# EAGLE library part FLATFLEX-60 (library SquantorConnectors)
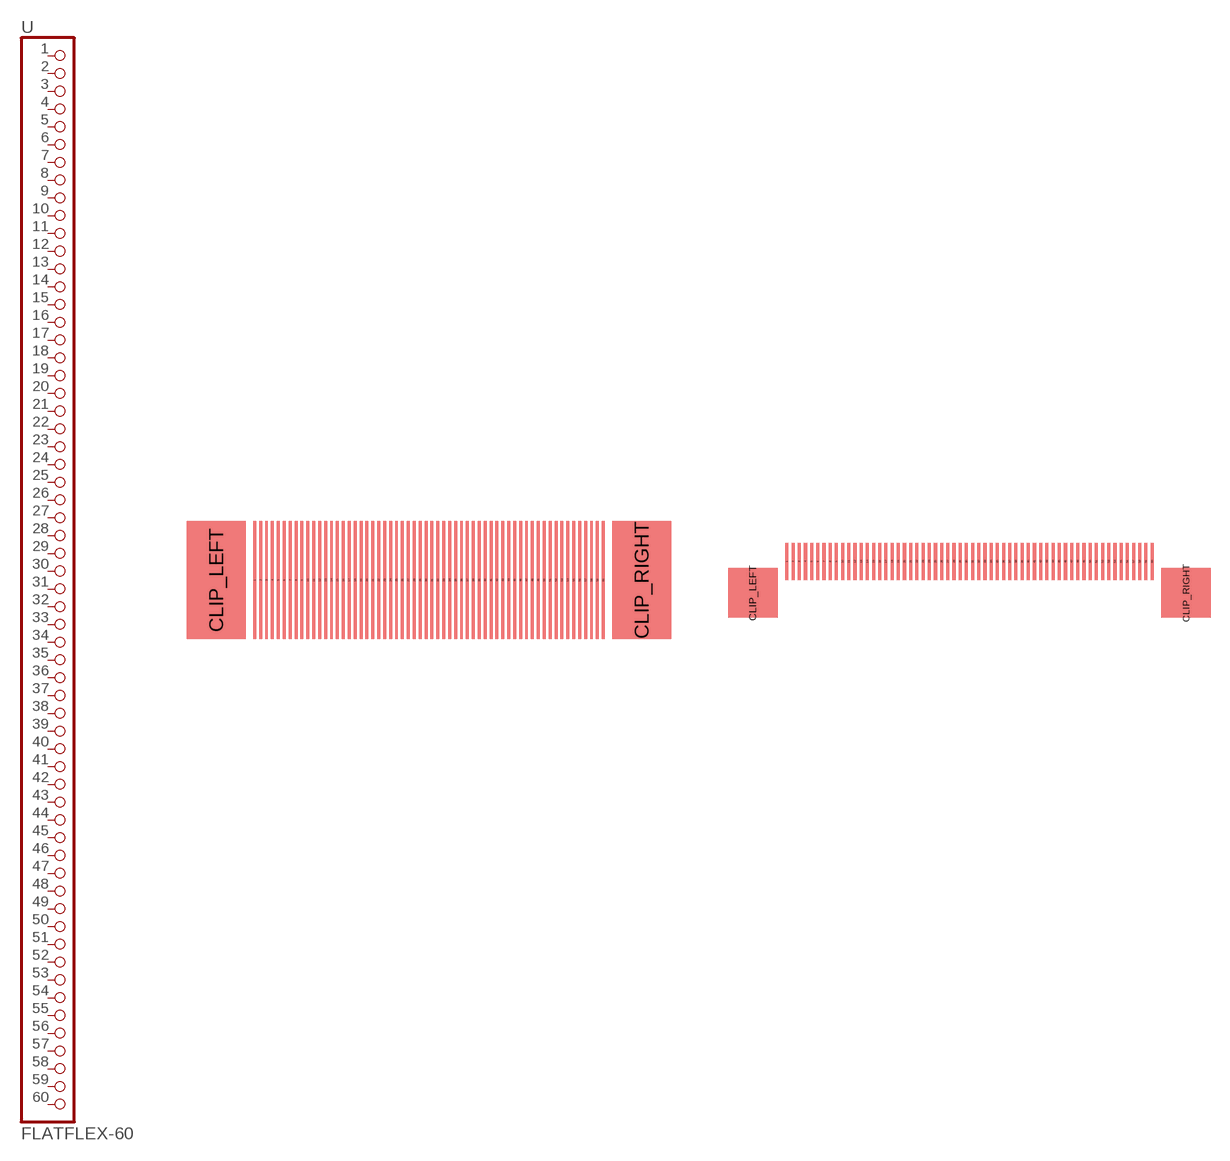
[diagram p52: symbol with the pads of FLATFLEX60_05_PROTO; footprints FLATFLEX60_05_PROTO, FLATFLEX60_05_NORMAL]

Designator prefix -

## FLATFLEX-60FLATFLEX_PROTO  [FLATFLEX60_05_PROTO]
1  1  pas
2  2  pas
3  3  pas
4  4  pas
5  5  pas
6  6  pas
7  7  pas
8  8  pas
9  9  pas
10  10  pas
11  11  pas
12  12  pas
13  13  pas
14  14  pas
15  15  pas
16  16  pas
17  17  pas
18  18  pas
19  19  pas
20  20  pas
21  21  pas
22  22  pas
23  23  pas
24  24  pas
25  25  pas
26  26  pas
27  27  pas
28  28  pas
29  29  pas
30  30  pas
31  31  pas
32  32  pas
33  33  pas
34  34  pas
35  35  pas
36  36  pas
37  37  pas
38  38  pas
39  39  pas
40  40  pas
41  41  pas
42  42  pas
43  43  pas
44  44  pas
45  45  pas
46  46  pas
47  47  pas
48  48  pas
49  49  pas
50  50  pas
51  51  pas
52  52  pas
53  53  pas
54  54  pas
55  55  pas
56  56  pas
57  57  pas
58  58  pas
59  59  pas
60  60  pas

## FLATFLEX-60FLATFLEX_PROTO_COMPACT  [FLATFLEX60_05_NORMAL]
Pads as for FLATFLEX60_05_PROTO

## Footprint FLATFLEX60_05_PROTO (pad centres in mm)
smd 0.25 x 10: 1 -14.25,-0.5; 2 -13.75,-0.5; 3 -13.25,-0.5; 4 -12.75,-0.5; 5 -12.25,-0.5; 6 -11.75,-0.5; 7 -11.25,-0.5; 8 -10.75,-0.5; 9 -10.25,-0.5; 10 -9.75,-0.5; 11 -9.25,-0.5; 12 -8.75,-0.5; 13 -8.25,-0.5; 14 -7.75,-0.5; 15 -7.25,-0.5; 16 -6.75,-0.5; 17 -6.25,-0.5; 18 -5.75,-0.5; 19 -5.25,-0.5; 20 -4.75,-0.5; 21 -4.25,-0.5; 22 -3.75,-0.5; 23 -3.25,-0.5; 24 -2.75,-0.5; 25 -2.25,-0.5; 26 -1.75,-0.5; 27 -1.25,-0.5; 28 -0.75,-0.5; 29 -0.25,-0.5; 30 0.25,-0.5; 31 0.75,-0.5; 32 1.25,-0.5; 33 1.75,-0.5; 34 2.25,-0.5; 35 2.75,-0.5; 36 3.25,-0.5; 37 3.75,-0.5; 38 4.25,-0.5; 39 4.75,-0.5; 40 5.25,-0.5; 41 5.75,-0.5; 42 6.25,-0.5; 43 6.75,-0.5; 44 7.25,-0.5; 45 7.75,-0.5; 46 8.25,-0.5; 47 8.75,-0.5; 48 9.25,-0.5; 49 9.75,-0.5; 50 10.25,-0.5; 51 10.75,-0.5; 52 11.25,-0.5; 53 11.75,-0.5; 54 12.25,-0.5; 55 12.75,-0.5; 56 13.25,-0.5; 57 13.75,-0.5; 58 14.25,-0.5; 59 14.75,-0.5; 60 15.25,-0.5
smd 5 x 10: CLIP_LEFT -17.5,-0.5; CLIP_RIGHT 18.5,-0.5

## Footprint FLATFLEX60_05_NORMAL (pad centres in mm)
smd 0.25 x 3: 1 -14.25,-0.5; 2 -13.75,-0.5; 3 -13.25,-0.5; 4 -12.75,-0.5; 5 -12.25,-0.5; 6 -11.75,-0.5; 7 -11.25,-0.5; 8 -10.75,-0.5; 9 -10.25,-0.5; 10 -9.75,-0.5; 11 -9.25,-0.5; 12 -8.75,-0.5; 13 -8.25,-0.5; 14 -7.75,-0.5; 15 -7.25,-0.5; 16 -6.75,-0.5; 17 -6.25,-0.5; 18 -5.75,-0.5; 19 -5.25,-0.5; 20 -4.75,-0.5; 21 -4.25,-0.5; 22 -3.75,-0.5; 23 -3.25,-0.5; 24 -2.75,-0.5; 25 -2.25,-0.5; 26 -1.75,-0.5; 27 -1.25,-0.5; 28 -0.75,-0.5; 29 -0.25,-0.5; 30 0.25,-0.5; 31 0.75,-0.5; 32 1.25,-0.5; 33 1.75,-0.5; 34 2.25,-0.5; 35 2.75,-0.5; 36 3.25,-0.5; 37 3.75,-0.5; 38 4.25,-0.5; 39 4.75,-0.5; 40 5.25,-0.5; 41 5.75,-0.5; 42 6.25,-0.5; 43 6.75,-0.5; 44 7.25,-0.5; 45 7.75,-0.5; 46 8.25,-0.5; 47 8.75,-0.5; 48 9.25,-0.5; 49 9.75,-0.5; 50 10.25,-0.5; 51 10.75,-0.5; 52 11.25,-0.5; 53 11.75,-0.5; 54 12.25,-0.5; 55 12.75,-0.5; 56 13.25,-0.5; 57 13.75,-0.5; 58 14.25,-0.5; 59 14.75,-0.5; 60 15.25,-0.5
smd 4 x 4: CLIP_LEFT -17,-3.04; CLIP_RIGHT 18,-3.04